# Altium schematic symbol library !Protection TVS.SchLib: 2 symbols
Pins are listed as number, name and electrical type; pins without a type are passive.

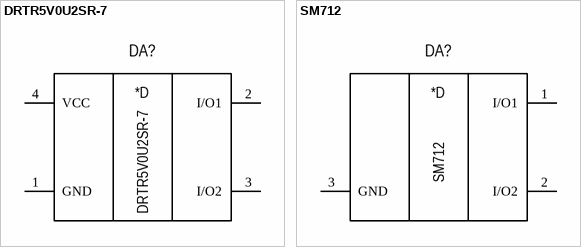
[diagram p0: symbols DRTR5V0U2SR-7 to SM712]

## DRTR5V0U2SR-7
designator DA?
Diode TVS Array 2Ch; Manufacturer: Diodes Incorporated; Group: TVS - Diodes; Package: SOT-143; Part name: DRTR5V0U2SR-7
footprint SOT-143
pins: 1 GND "Ground pin", 2 I/O1, 3 I/O2, 4 VCC
text: *D

## SM712
designator DA?
Diode TVS Array 2Ch; Manufacturer: Semtech; Group: TVS - Diodes; Package: SOT-23-3; Part name: SM712
footprint SOT-23-3N
pins: 1 I/O1, 2 I/O2, 3 GND "Ground pin"
text: *D